# EAGLE library part NRF8001-R2Q32-T (library Common-Parts-Library-Eagle)
Bluetooth Class II 3V 1Mbps 32-Pin QFN EP Tray
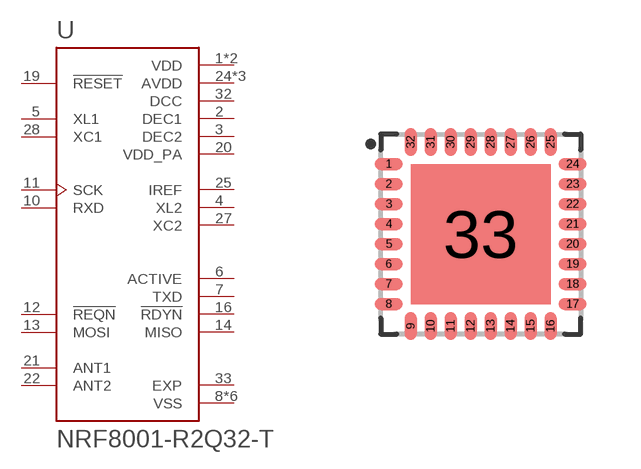
[diagram p47: symbol with the pads of NRF8001-R2Q32-T_QFN50P500X500X90-33N; footprint NRF8001-R2Q32-T_QFN50P500X500X90-33N]

Designator prefix U

## NRF8001-R2Q32-T (MANUFACTURER: Nordic Semiconductor)  [NRF8001-R2Q32-T_QFN50P500X500X90-33N]
1  VDD  pwr
2  DEC1  pwr
3  DEC2  pwr
4  XL2  out
5  XL1  in
6  ACTIVE  out
7  TXD  out
8  VSS  pwr
9  VDD  pwr
10  RXD  in
11  SCK  in
12  !REQN  in
13  MOSI  in
14  MISO  out
16  !RDYN  out
17  VSS  pwr
18  VSS  pwr
19  !RESET  in
20  VDD_PA  out
21  ANT1  pas
22  ANT2  pas
23  VSS  pwr
24  AVDD  pwr
25  IREF  out
26  AVDD  pwr
27  XC2  out
28  XC1  in
29  AVDD  pwr
30  VSS  pwr
31  VSS  pwr
32  DCC  pwr
33  EXP  pwr

## Footprint NRF8001-R2Q32-T_QFN50P500X500X90-33N (pad centres in mm)
smd 0.7 x 0.3: 1 -2.3,1.75; 2 -2.3,1.25; 3 -2.3,0.75; 4 -2.3,0.25; 5 -2.3,-0.25; 6 -2.3,-0.75; 7 -2.3,-1.25; 8 -2.3,-1.75; 17 2.3,-1.75; 18 2.3,-1.25; 19 2.3,-0.75; 20 2.3,-0.25; 21 2.3,0.25; 22 2.3,0.75; 23 2.3,1.25; 24 2.3,1.75
smd 0.3 x 0.7: 9 -1.75,-2.3; 10 -1.25,-2.3; 11 -0.75,-2.3; 12 -0.25,-2.3; 13 0.25,-2.3; 14 0.75,-2.3; 15 1.25,-2.3; 16 1.75,-2.3; 25 1.75,2.3; 26 1.25,2.3; 27 0.75,2.3; 28 0.25,2.3; 29 -0.25,2.3; 30 -0.75,2.3; 31 -1.25,2.3; 32 -1.75,2.3
smd 3.5 x 3.5: 33 0,0